# Altium integrated library EEUTA1H101.IntLib: 1 symbol
Pins are listed as number, name and electrical type; pins without a type are passive.

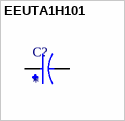
[diagram p0: symbol EEUTA1H101]

## EEUTA1H101
designator C?
Cap Aluminum Lytic 100uF 50V 20% (10 X 12.5mm) Radial 5mm 555mA 2000h 125Â°C Automotive Bulk; MP: EEUTA1H101; MF: Panasonic; Package: RADIAL-2 Panasonic; SnapEDA_Link: https://www.snapeda.com/parts/EEUTA1H101/Panasonic/view-part/2305858/?ref=snap; Check_prices: https://www.snapeda.com/parts/EEUTA1H101/Panasonic/view-part/2305858/?ref=eda; Value: *; Digi-Key_Part_Number: 10-EEU-TA1H101BCT-ND
footprint CAPPRD500W60D1000H1250
pins: N, P